# EAGLE library part MGJ2D121509MPC-R7 (library MGJ2D121509MPC-R7)
Isolated DC/DC Converters DC/DC 1W SM 12-15/9V 5.2KV Source: Datasheet <https://www.mouser.jp/datasheet/2/281/1/KDC_MGJ2SM-2941076.pdf>
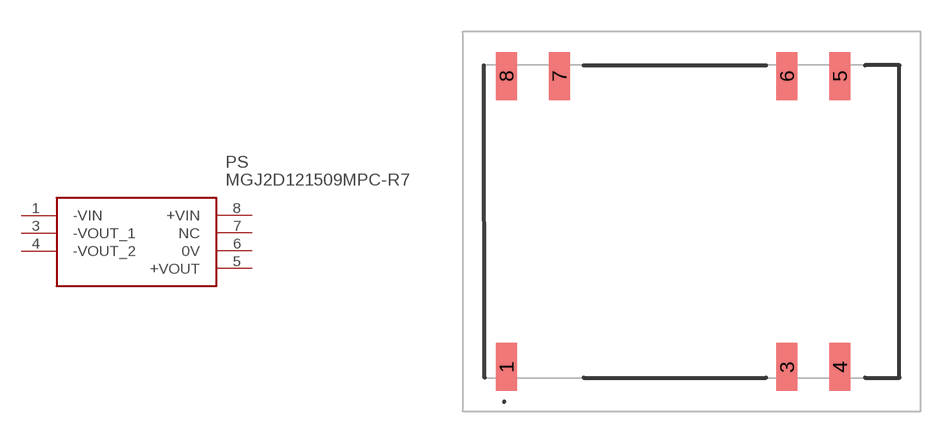
[diagram p0: symbol with the pads of MGJ2D121509MPCR7; footprint MGJ2D121509MPCR7]

Designator prefix PS

## MGJ2D121509MPC-R7 (Description: Isolated DC/DC Converters DC/DC 1W SM 12-15/9V 5.2KV; Height: 4.84mm; Manufacturer_Name: Murata Electronics; Manufacturer_Part_Number: MGJ2D121509MPC-R7; Mouser_Part_Number: 580-MGJ2D121509MPCR7; Mouser_Price-Stock: https://www.mouser.co.uk/ProductDetail/Murata-Power-Solutions/MGJ2D121509MPC-R7?qs=QNEnbhJQKva%252B8ZMbPXWu1Q%3D%3D)  [MGJ2D121509MPCR7]
1  -VIN
3  -VOUT_1
4  -VOUT_2
5  +VOUT
6  0V
7  NC  nc
8  +VIN

## Footprint MGJ2D121509MPCR7 (pad centres in mm)
MGJ2D121509MPC-R7-1
smd 1 x 2.3: 1 -8.89,-6.985; 3 4.57,-6.985; 4 7.11,-6.985; 5 7.11,6.985; 6 4.57,6.985; 7 -6.35,6.985; 8 -8.89,6.985